# Altium footprint library Science_Sensors.PcbLib: 1 footprints
Each footprint in its own frame and in the unit in brackets; x right, y up, seen from the top. Pads: shape width x height; smd on the part's side, far side on the other; paste and mask are expansions set on the pad; w line width, h text height; cw(c..) or ccw(c..) is an arc to the next point about the centre after c.
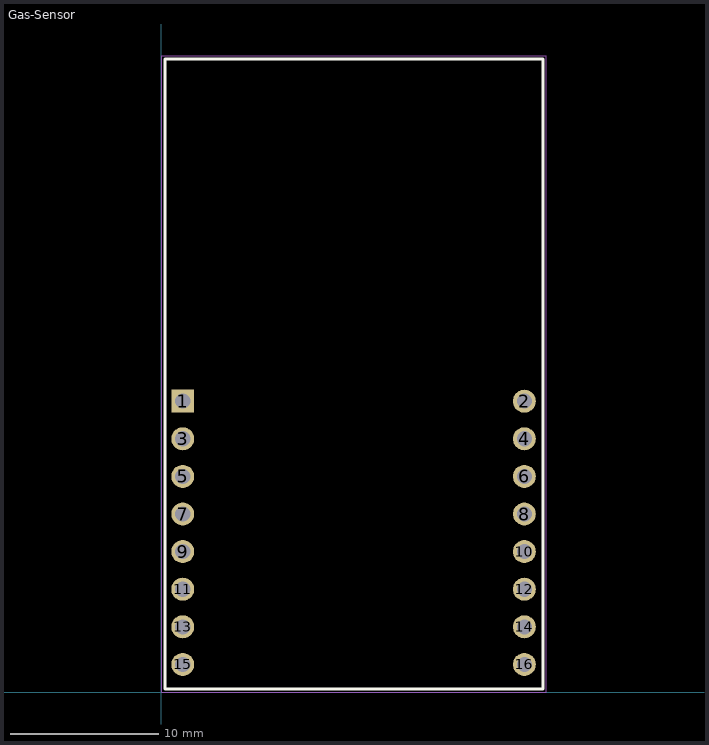
[diagram p0: the footprint, top view; thin cyan lines are the x and y axes]

## Gas-Sensor [mm]
pads (16):
  rect 1.55x1.55 hole 1.02: 1(1.439,19.671)
  round 1.55 hole 1.02: 2(24.511,19.671) 3(1.439,17.131) 4(24.511,17.131) 5(1.439,14.591) 6(24.511,14.591) 7(1.439,12.051) 8(24.511,12.051) 9(1.439,9.511) 10(24.511,9.511) 11(1.439,6.971) 12(24.511,6.971) 13(1.439,4.431) 14(24.511,4.431) 15(1.439,1.891) 16(24.511,1.891)
Top Overlay:
  lines w0.2: 0.234,0.241 0.234,42.799 25.781,42.799 25.781,0.241 0.234,0.241
Mechanical 13:
  lines w0.1: 0.234,0.241 0.234,42.799 25.781,42.799 25.781,0.241 0.234,0.241
Mechanical 15:
  lines w0.05: 0.009,0.016 26,0.016 26,43 0.009,43 0.009,0.016